# EAGLE library part ESP (library mullac)
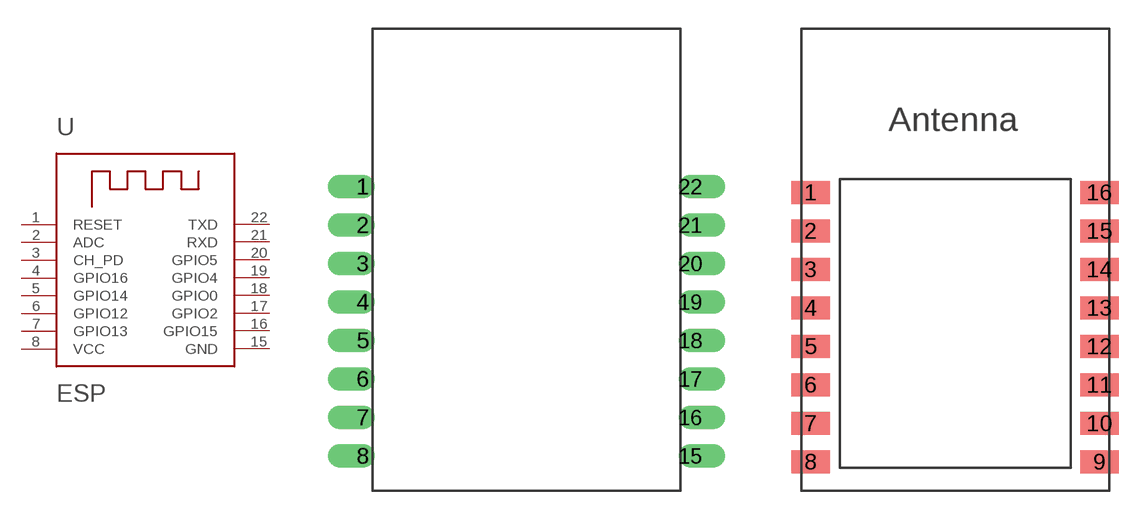
[diagram p5: symbol with the pads of ESP12E; footprints ESP12E, ESP12E-SMD]

Designator prefix -

## ESPTHROUGHHOLE  [ESP12E]
1  RESET  in
2  ADC  pas
3  CH_PD  in
4  GPIO16
5  GPIO14
6  GPIO12
7  GPIO13
8  VCC  pwr
15  GND  pwr
16  GPIO15
17  GPIO2
18  GPIO0
19  GPIO4
20  GPIO5
21  RXD  in
22  TXD  out

## ESPSMD  [ESP12E-SMD]
1  RESET  in
2  ADC  pas
3  CH_PD  in
4  GPIO16
5  GPIO14
6  GPIO12
7  GPIO13
8  VCC  pwr
9  GND  pwr
10  GPIO15
11  GPIO2
12  GPIO0
13  GPIO4
14  GPIO5
15  RXD  in
16  TXD  out

## Footprint ESP12E (pad centres in mm)
drill 0.7 offset: 1 -8.5,5.73; 2 -8.5,3.73; 3 -8.5,1.73; 4 -8.5,-0.27; 5 -8.5,-2.27; 6 -8.5,-4.27; 7 -8.5,-6.27; 8 -8.5,-8.27; 15 8.5,-8.27; 16 8.5,-6.27; 17 8.5,-4.27; 18 8.5,-2.27; 19 8.5,-0.27; 20 8.5,1.73; 21 8.5,3.73; 22 8.5,5.73

## Footprint ESP12E-SMD (pad centres in mm)
smd 2 x 1.2: 1 -7.5,6.5; 2 -7.5,4.5; 3 -7.5,2.5; 4 -7.5,0.5; 5 -7.5,-1.5; 6 -7.5,-3.5; 7 -7.5,-5.5; 8 -7.5,-7.5; 9 7.5,-7.5; 10 7.5,-5.5; 11 7.5,-3.5; 12 7.5,-1.5; 13 7.5,0.5; 14 7.5,2.5; 15 7.5,4.5; 16 7.5,6.5